# Altium footprint library IPC-7359 QFN_Sq_50P_Side_M.PcbLib: 92 footprints (part 1 of 6)
Each footprint in its own frame and in the unit in brackets; x right, y up, seen from the top. Pads: shape width x height; smd on the part's side, far side on the other; paste and mask are expansions set on the pad; w line width, h text height; cw(c..) or ccw(c..) is an arc to the next point about the centre after c.
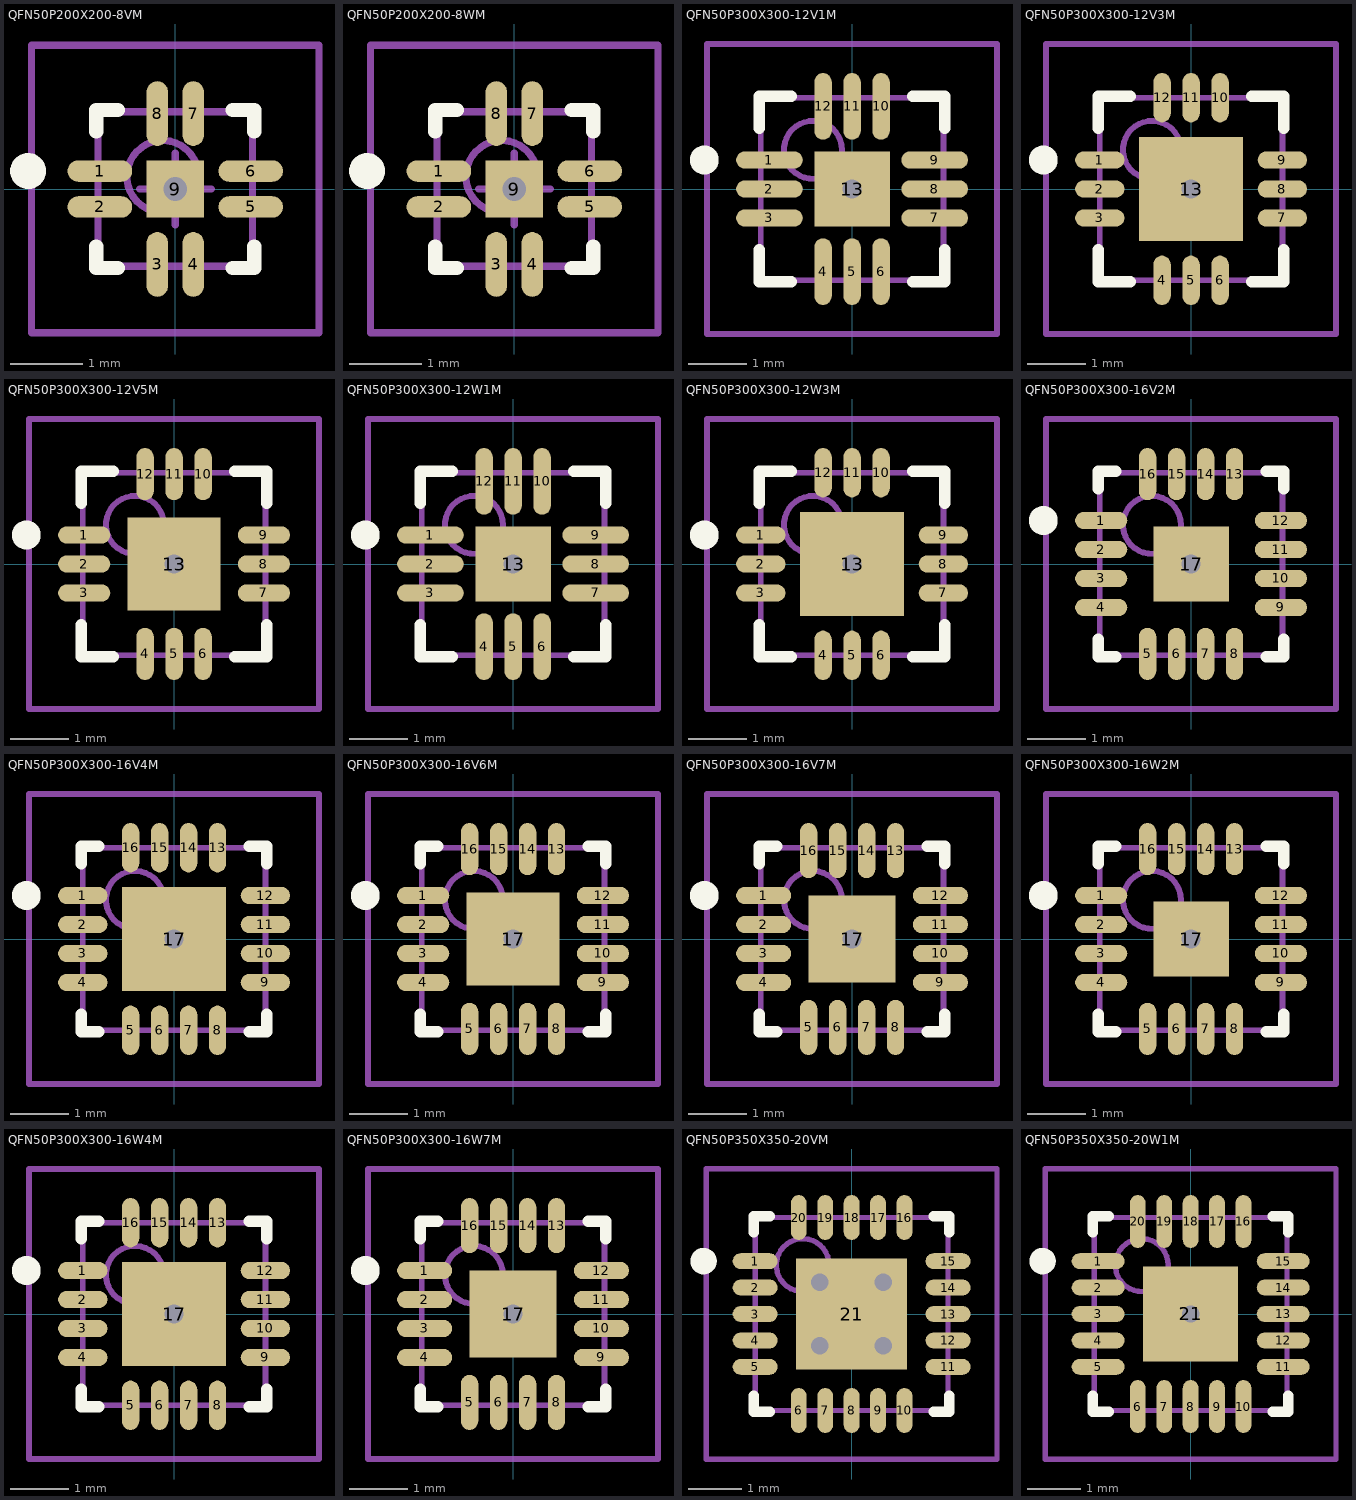
[diagram p0: the footprints below, top view; thin cyan lines are the x and y axes]

## QFN50P200X200-8VM [mm] "QFN, 8-Leads, Body 2x2mm, Pitch 0.5mm, IPC Low Density"
height 1
pads (9):
  oval 0.9x0.3 smd: 1(-1.05,0.25) 2(-1.05,-0.25) 5(1.05,-0.25) 6(1.05,0.25)
  oval 0.3x0.9 smd: 3(-0.25,-1.05) 4(0.25,-1.05) 7(0.25,1.05) 8(-0.25,1.05)
  rect 0.8x0.8 smd: 9(0,0)
via 0,0 diameter 0.66 hole 0.33
Top Overlay:
  circle w0.25: c-2.05,0.25 r0.125
  lines w0.2: -1.1,-0.8 -1.1,-1.1 -0.8,-1.1 ; -1.1,0.8 -1.1,1.1 -0.8,1.1 ; 0.8,-1.1 1.1,-1.1 1.1,-0.8 ; 0.8,1.1 1.1,1.1 1.1,0.8
Mechanical 13:
  circle w0.1: c-0.175,0.175 r0.5
  lines w0.1: -1.075,-1.075 1.075,-1.075 1.075,1.075 -1.075,1.075 -1.075,-1.075
Mechanical 15:
  lines w0.1: -0.5,0 0.5,0 ; 0,-0.5 0,0.5 ; -2,-2 2,-2 2,2 -2,2 -2,-2
3D body: height 1, standoff 0, extent -1.075,-1.075 1.075,1.075

## QFN50P200X200-8WM [mm] "QFN, 8-Leads, Body 2x2mm, Pitch 0.5mm, IPC Low Density"
height 0.8
pads (9):
  oval 0.9x0.3 smd: 1(-1.05,0.25) 2(-1.05,-0.25) 5(1.05,-0.25) 6(1.05,0.25)
  oval 0.3x0.9 smd: 3(-0.25,-1.05) 4(0.25,-1.05) 7(0.25,1.05) 8(-0.25,1.05)
  rect 0.8x0.8 smd: 9(0,0)
via 0,0 diameter 0.66 hole 0.33
Top Overlay:
  circle w0.25: c-2.05,0.25 r0.125
  lines w0.2: -1.1,-0.8 -1.1,-1.1 -0.8,-1.1 ; -1.1,0.8 -1.1,1.1 -0.8,1.1 ; 0.8,-1.1 1.1,-1.1 1.1,-0.8 ; 0.8,1.1 1.1,1.1 1.1,0.8
Mechanical 13:
  circle w0.1: c-0.175,0.175 r0.5
  lines w0.1: -1.075,-1.075 1.075,-1.075 1.075,1.075 -1.075,1.075 -1.075,-1.075
Mechanical 15:
  lines w0.1: -0.5,0 0.5,0 ; 0,-0.5 0,0.5 ; -2,-2 2,-2 2,2 -2,2 -2,-2
3D body: height 0.8, standoff 0, extent -1.075,-1.075 1.075,1.075

## QFN50P300X300-12V1M [mm] "QFN, 12-Leads, Body 3x3mm, Pitch 0.5mm, IPC Low Density"
height 1
pads (13):
  oval 1.15x0.3 smd: 1(-1.425,0.5) 2(-1.425,0) 3(-1.425,-0.5) 7(1.425,-0.5) 8(1.425,0) 9(1.425,0.5)
  oval 0.3x1.15 smd: 4(-0.5,-1.425) 5(0,-1.425) 6(0.5,-1.425) 10(0.5,1.425) 11(0,1.425) 12(-0.5,1.425)
  rect 1.3x1.3 smd: 13(0,0)
via 0,0 diameter 0.66 hole 0.33
Top Overlay:
  circle w0.25: c-2.55,0.5 r0.125
  lines w0.2: -1.6,-1.05 -1.6,-1.6 -1.05,-1.6 ; -1.6,1.05 -1.6,1.6 -1.05,1.6 ; 1.05,-1.6 1.6,-1.6 1.6,-1.05 ; 1.05,1.6 1.6,1.6 1.6,1.05
Mechanical 13:
  circle w0.1: c-0.675,0.675 r0.5
  lines w0.1: -1.575,-1.575 1.575,-1.575 1.575,1.575 -1.575,1.575 -1.575,-1.575
Mechanical 15:
  lines w0.1: -0.5,0 0.5,0 ; 0,-0.5 0,0.5 ; -2.5,-2.5 2.5,-2.5 2.5,2.5 -2.5,2.5 -2.5,-2.5
3D body: height 1, standoff 0, extent -1.575,-1.575 1.575,1.575

## QFN50P300X300-12V3M [mm] "QFN, 12-Leads, Body 3x3mm, Pitch 0.5mm, IPC Low Density"
height 1
pads (13):
  oval 0.85x0.3 smd: 1(-1.575,0.5) 2(-1.575,0) 3(-1.575,-0.5) 7(1.575,-0.5) 8(1.575,0) 9(1.575,0.5)
  oval 0.3x0.85 smd: 4(-0.5,-1.575) 5(0,-1.575) 6(0.5,-1.575) 10(0.5,1.575) 11(0,1.575) 12(-0.5,1.575)
  rect 1.8x1.8 smd: 13(0,0)
via 0,0 diameter 0.66 hole 0.33
Top Overlay:
  circle w0.25: c-2.55,0.5 r0.125
  lines w0.2: -1.6,-1.05 -1.6,-1.6 -1.05,-1.6 ; -1.6,1.05 -1.6,1.6 -1.05,1.6 ; 1.05,-1.6 1.6,-1.6 1.6,-1.05 ; 1.05,1.6 1.6,1.6 1.6,1.05
Mechanical 13:
  circle w0.1: c-0.675,0.675 r0.5
  lines w0.1: -1.575,-1.575 1.575,-1.575 1.575,1.575 -1.575,1.575 -1.575,-1.575
Mechanical 15:
  lines w0.1: -0.5,0 0.5,0 ; 0,-0.5 0,0.5 ; -2.5,-2.5 2.5,-2.5 2.5,2.5 -2.5,2.5 -2.5,-2.5
3D body: height 1, standoff 0, extent -1.575,-1.575 1.575,1.575

## QFN50P300X300-12V5M [mm] "QFN, 12-Leads, Body 3x3mm, Pitch 0.5mm, IPC Low Density"
height 1
pads (13):
  oval 0.9x0.3 smd: 1(-1.55,0.5) 2(-1.55,0) 3(-1.55,-0.5) 7(1.55,-0.5) 8(1.55,0) 9(1.55,0.5)
  oval 0.3x0.9 smd: 4(-0.5,-1.55) 5(0,-1.55) 6(0.5,-1.55) 10(0.5,1.55) 11(0,1.55) 12(-0.5,1.55)
  rect 1.6x1.6 smd: 13(0,0)
via 0,0 diameter 0.66 hole 0.33
Top Overlay:
  circle w0.25: c-2.55,0.5 r0.125
  lines w0.2: -1.6,-1.05 -1.6,-1.6 -1.05,-1.6 ; -1.6,1.05 -1.6,1.6 -1.05,1.6 ; 1.05,-1.6 1.6,-1.6 1.6,-1.05 ; 1.05,1.6 1.6,1.6 1.6,1.05
Mechanical 13:
  circle w0.1: c-0.675,0.675 r0.5
  lines w0.1: -1.575,-1.575 1.575,-1.575 1.575,1.575 -1.575,1.575 -1.575,-1.575
Mechanical 15:
  lines w0.1: -0.5,0 0.5,0 ; 0,-0.5 0,0.5 ; -2.5,-2.5 2.5,-2.5 2.5,2.5 -2.5,2.5 -2.5,-2.5
3D body: height 1, standoff 0, extent -1.575,-1.575 1.575,1.575

## QFN50P300X300-12W1M [mm] "QFN, 12-Leads, Body 3x3mm, Pitch 0.5mm, IPC Low Density"
height 0.8
pads (13):
  oval 1.15x0.3 smd: 1(-1.425,0.5) 2(-1.425,0) 3(-1.425,-0.5) 7(1.425,-0.5) 8(1.425,0) 9(1.425,0.5)
  oval 0.3x1.15 smd: 4(-0.5,-1.425) 5(0,-1.425) 6(0.5,-1.425) 10(0.5,1.425) 11(0,1.425) 12(-0.5,1.425)
  rect 1.3x1.3 smd: 13(0,0)
via 0,0 diameter 0.66 hole 0.33
Top Overlay:
  circle w0.25: c-2.55,0.5 r0.125
  lines w0.2: -1.6,-1.05 -1.6,-1.6 -1.05,-1.6 ; -1.6,1.05 -1.6,1.6 -1.05,1.6 ; 1.05,-1.6 1.6,-1.6 1.6,-1.05 ; 1.05,1.6 1.6,1.6 1.6,1.05
Mechanical 13:
  circle w0.1: c-0.675,0.675 r0.5
  lines w0.1: -1.575,-1.575 1.575,-1.575 1.575,1.575 -1.575,1.575 -1.575,-1.575
Mechanical 15:
  lines w0.1: -0.5,0 0.5,0 ; 0,-0.5 0,0.5 ; -2.5,-2.5 2.5,-2.5 2.5,2.5 -2.5,2.5 -2.5,-2.5
3D body: height 0.8, standoff 0, extent -1.575,-1.575 1.575,1.575

## QFN50P300X300-12W3M [mm] "QFN, 12-Leads, Body 3x3mm, Pitch 0.5mm, IPC Low Density"
height 0.8
pads (13):
  oval 0.85x0.3 smd: 1(-1.575,0.5) 2(-1.575,0) 3(-1.575,-0.5) 7(1.575,-0.5) 8(1.575,0) 9(1.575,0.5)
  oval 0.3x0.85 smd: 4(-0.5,-1.575) 5(0,-1.575) 6(0.5,-1.575) 10(0.5,1.575) 11(0,1.575) 12(-0.5,1.575)
  rect 1.8x1.8 smd: 13(0,0)
via 0,0 diameter 0.66 hole 0.33
Top Overlay:
  circle w0.25: c-2.55,0.5 r0.125
  lines w0.2: -1.6,-1.05 -1.6,-1.6 -1.05,-1.6 ; -1.6,1.05 -1.6,1.6 -1.05,1.6 ; 1.05,-1.6 1.6,-1.6 1.6,-1.05 ; 1.05,1.6 1.6,1.6 1.6,1.05
Mechanical 13:
  circle w0.1: c-0.675,0.675 r0.5
  lines w0.1: -1.575,-1.575 1.575,-1.575 1.575,1.575 -1.575,1.575 -1.575,-1.575
Mechanical 15:
  lines w0.1: -0.5,0 0.5,0 ; 0,-0.5 0,0.5 ; -2.5,-2.5 2.5,-2.5 2.5,2.5 -2.5,2.5 -2.5,-2.5
3D body: height 0.8, standoff 0, extent -1.575,-1.575 1.575,1.575

## QFN50P300X300-16V2M [mm] "QFN, 16-Leads, Body 3x3mm, Pitch 0.5mm, IPC Low Density"
height 1
pads (17):
  oval 0.9x0.3 smd: 1(-1.55,0.75) 2(-1.55,0.25) 3(-1.55,-0.25) 4(-1.55,-0.75) 9(1.55,-0.75) 10(1.55,-0.25) 11(1.55,0.25) 12(1.55,0.75)
  oval 0.3x0.9 smd: 5(-0.75,-1.55) 6(-0.25,-1.55) 7(0.25,-1.55) 8(0.75,-1.55) 13(0.75,1.55) 14(0.25,1.55) 15(-0.25,1.55) 16(-0.75,1.55)
  rect 1.3x1.3 smd: 17(0,0)
via 0,0 diameter 0.66 hole 0.33
Top Overlay:
  circle w0.25: c-2.55,0.75 r0.125
  lines w0.2: -1.6,-1.3 -1.6,-1.6 -1.3,-1.6 ; -1.6,1.3 -1.6,1.6 -1.3,1.6 ; 1.3,-1.6 1.6,-1.6 1.6,-1.3 ; 1.3,1.6 1.6,1.6 1.6,1.3
Mechanical 13:
  circle w0.1: c-0.675,0.675 r0.5
  lines w0.1: -1.575,-1.575 1.575,-1.575 1.575,1.575 -1.575,1.575 -1.575,-1.575
Mechanical 15:
  lines w0.1: -0.5,0 0.5,0 ; 0,-0.5 0,0.5 ; -2.5,-2.5 2.5,-2.5 2.5,2.5 -2.5,2.5 -2.5,-2.5
3D body: height 1, standoff 0, extent -1.575,-1.575 1.575,1.575

## QFN50P300X300-16V4M [mm] "QFN, 16-Leads, Body 3x3mm, Pitch 0.5mm, IPC Low Density"
height 1
pads (17):
  oval 0.85x0.3 smd: 1(-1.575,0.75) 2(-1.575,0.25) 3(-1.575,-0.25) 4(-1.575,-0.75) 9(1.575,-0.75) 10(1.575,-0.25) 11(1.575,0.25) 12(1.575,0.75)
  oval 0.3x0.85 smd: 5(-0.75,-1.575) 6(-0.25,-1.575) 7(0.25,-1.575) 8(0.75,-1.575) 13(0.75,1.575) 14(0.25,1.575) 15(-0.25,1.575) 16(-0.75,1.575)
  rect 1.8x1.8 smd: 17(0,0)
via 0,0 diameter 0.66 hole 0.33
Top Overlay:
  circle w0.25: c-2.55,0.75 r0.125
  lines w0.2: -1.6,-1.3 -1.6,-1.6 -1.3,-1.6 ; -1.6,1.3 -1.6,1.6 -1.3,1.6 ; 1.3,-1.6 1.6,-1.6 1.6,-1.3 ; 1.3,1.6 1.6,1.6 1.6,1.3
Mechanical 13:
  circle w0.1: c-0.675,0.675 r0.5
  lines w0.1: -1.575,-1.575 1.575,-1.575 1.575,1.575 -1.575,1.575 -1.575,-1.575
Mechanical 15:
  lines w0.1: -0.5,0 0.5,0 ; 0,-0.5 0,0.5 ; -2.5,-2.5 2.5,-2.5 2.5,2.5 -2.5,2.5 -2.5,-2.5
3D body: height 1, standoff 0, extent -1.575,-1.575 1.575,1.575

## QFN50P300X300-16V6M [mm] "QFN, 16-Leads, Body 3x3mm, Pitch 0.5mm, IPC Low Density"
height 1
pads (17):
  oval 0.9x0.3 smd: 1(-1.55,0.75) 2(-1.55,0.25) 3(-1.55,-0.25) 4(-1.55,-0.75) 9(1.55,-0.75) 10(1.55,-0.25) 11(1.55,0.25) 12(1.55,0.75)
  oval 0.3x0.9 smd: 5(-0.75,-1.55) 6(-0.25,-1.55) 7(0.25,-1.55) 8(0.75,-1.55) 13(0.75,1.55) 14(0.25,1.55) 15(-0.25,1.55) 16(-0.75,1.55)
  rect 1.6x1.6 smd: 17(0,0)
via 0,0 diameter 0.66 hole 0.33
Top Overlay:
  circle w0.25: c-2.55,0.75 r0.125
  lines w0.2: -1.6,-1.3 -1.6,-1.6 -1.3,-1.6 ; -1.6,1.3 -1.6,1.6 -1.3,1.6 ; 1.3,-1.6 1.6,-1.6 1.6,-1.3 ; 1.3,1.6 1.6,1.6 1.6,1.3
Mechanical 13:
  circle w0.1: c-0.675,0.675 r0.5
  lines w0.1: -1.575,-1.575 1.575,-1.575 1.575,1.575 -1.575,1.575 -1.575,-1.575
Mechanical 15:
  lines w0.1: -0.5,0 0.5,0 ; 0,-0.5 0,0.5 ; -2.5,-2.5 2.5,-2.5 2.5,2.5 -2.5,2.5 -2.5,-2.5
3D body: height 1, standoff 0, extent -1.575,-1.575 1.575,1.575

## QFN50P300X300-16V7M [mm] "QFN, 16-Leads, Body 3x3mm, Pitch 0.5mm, IPC Low Density"
height 1
pads (17):
  oval 0.95x0.3 smd: 1(-1.525,0.75) 2(-1.525,0.25) 3(-1.525,-0.25) 4(-1.525,-0.75) 9(1.525,-0.75) 10(1.525,-0.25) 11(1.525,0.25) 12(1.525,0.75)
  oval 0.3x0.95 smd: 5(-0.75,-1.525) 6(-0.25,-1.525) 7(0.25,-1.525) 8(0.75,-1.525) 13(0.75,1.525) 14(0.25,1.525) 15(-0.25,1.525) 16(-0.75,1.525)
  rect 1.5x1.5 smd: 17(0,0)
via 0,0 diameter 0.66 hole 0.33
Top Overlay:
  circle w0.25: c-2.55,0.75 r0.125
  lines w0.2: -1.6,-1.3 -1.6,-1.6 -1.3,-1.6 ; -1.6,1.3 -1.6,1.6 -1.3,1.6 ; 1.3,-1.6 1.6,-1.6 1.6,-1.3 ; 1.3,1.6 1.6,1.6 1.6,1.3
Mechanical 13:
  circle w0.1: c-0.675,0.675 r0.5
  lines w0.1: -1.575,-1.575 1.575,-1.575 1.575,1.575 -1.575,1.575 -1.575,-1.575
Mechanical 15:
  lines w0.1: -0.5,0 0.5,0 ; 0,-0.5 0,0.5 ; -2.5,-2.5 2.5,-2.5 2.5,2.5 -2.5,2.5 -2.5,-2.5
3D body: height 1, standoff 0, extent -1.575,-1.575 1.575,1.575

## QFN50P300X300-16W2M [mm] "QFN, 16-Leads, Body 3x3mm, Pitch 0.5mm, IPC Low Density"
height 0.8
pads (17):
  oval 0.9x0.3 smd: 1(-1.55,0.75) 2(-1.55,0.25) 3(-1.55,-0.25) 4(-1.55,-0.75) 9(1.55,-0.75) 10(1.55,-0.25) 11(1.55,0.25) 12(1.55,0.75)
  oval 0.3x0.9 smd: 5(-0.75,-1.55) 6(-0.25,-1.55) 7(0.25,-1.55) 8(0.75,-1.55) 13(0.75,1.55) 14(0.25,1.55) 15(-0.25,1.55) 16(-0.75,1.55)
  rect 1.3x1.3 smd: 17(0,0)
via 0,0 diameter 0.66 hole 0.33
Top Overlay:
  circle w0.25: c-2.55,0.75 r0.125
  lines w0.2: -1.6,-1.3 -1.6,-1.6 -1.3,-1.6 ; -1.6,1.3 -1.6,1.6 -1.3,1.6 ; 1.3,-1.6 1.6,-1.6 1.6,-1.3 ; 1.3,1.6 1.6,1.6 1.6,1.3
Mechanical 13:
  circle w0.1: c-0.675,0.675 r0.5
  lines w0.1: -1.575,-1.575 1.575,-1.575 1.575,1.575 -1.575,1.575 -1.575,-1.575
Mechanical 15:
  lines w0.1: -0.5,0 0.5,0 ; 0,-0.5 0,0.5 ; -2.5,-2.5 2.5,-2.5 2.5,2.5 -2.5,2.5 -2.5,-2.5
3D body: height 0.8, standoff 0, extent -1.575,-1.575 1.575,1.575

## QFN50P300X300-16W4M [mm] "QFN, 16-Leads, Body 3x3mm, Pitch 0.5mm, IPC Low Density"
height 0.8
pads (17):
  oval 0.85x0.3 smd: 1(-1.575,0.75) 2(-1.575,0.25) 3(-1.575,-0.25) 4(-1.575,-0.75) 9(1.575,-0.75) 10(1.575,-0.25) 11(1.575,0.25) 12(1.575,0.75)
  oval 0.3x0.85 smd: 5(-0.75,-1.575) 6(-0.25,-1.575) 7(0.25,-1.575) 8(0.75,-1.575) 13(0.75,1.575) 14(0.25,1.575) 15(-0.25,1.575) 16(-0.75,1.575)
  rect 1.8x1.8 smd: 17(0,0)
via 0,0 diameter 0.66 hole 0.33
Top Overlay:
  circle w0.25: c-2.55,0.75 r0.125
  lines w0.2: -1.6,-1.3 -1.6,-1.6 -1.3,-1.6 ; -1.6,1.3 -1.6,1.6 -1.3,1.6 ; 1.3,-1.6 1.6,-1.6 1.6,-1.3 ; 1.3,1.6 1.6,1.6 1.6,1.3
Mechanical 13:
  circle w0.1: c-0.675,0.675 r0.5
  lines w0.1: -1.575,-1.575 1.575,-1.575 1.575,1.575 -1.575,1.575 -1.575,-1.575
Mechanical 15:
  lines w0.1: -0.5,0 0.5,0 ; 0,-0.5 0,0.5 ; -2.5,-2.5 2.5,-2.5 2.5,2.5 -2.5,2.5 -2.5,-2.5
3D body: height 0.8, standoff 0, extent -1.575,-1.575 1.575,1.575

## QFN50P300X300-16W7M [mm] "QFN, 16-Leads, Body 3x3mm, Pitch 0.5mm, IPC Low Density"
height 0.8
pads (17):
  oval 0.95x0.3 smd: 1(-1.525,0.75) 2(-1.525,0.25) 3(-1.525,-0.25) 4(-1.525,-0.75) 9(1.525,-0.75) 10(1.525,-0.25) 11(1.525,0.25) 12(1.525,0.75)
  oval 0.3x0.95 smd: 5(-0.75,-1.525) 6(-0.25,-1.525) 7(0.25,-1.525) 8(0.75,-1.525) 13(0.75,1.525) 14(0.25,1.525) 15(-0.25,1.525) 16(-0.75,1.525)
  rect 1.5x1.5 smd: 17(0,0)
via 0,0 diameter 0.66 hole 0.33
Top Overlay:
  circle w0.25: c-2.55,0.75 r0.125
  lines w0.2: -1.6,-1.3 -1.6,-1.6 -1.3,-1.6 ; -1.6,1.3 -1.6,1.6 -1.3,1.6 ; 1.3,-1.6 1.6,-1.6 1.6,-1.3 ; 1.3,1.6 1.6,1.6 1.6,1.3
Mechanical 13:
  circle w0.1: c-0.675,0.675 r0.5
  lines w0.1: -1.575,-1.575 1.575,-1.575 1.575,1.575 -1.575,1.575 -1.575,-1.575
Mechanical 15:
  lines w0.1: -0.5,0 0.5,0 ; 0,-0.5 0,0.5 ; -2.5,-2.5 2.5,-2.5 2.5,2.5 -2.5,2.5 -2.5,-2.5
3D body: height 0.8, standoff 0, extent -1.575,-1.575 1.575,1.575

## QFN50P350X350-20VM [mm] "QFN, 20-Leads, Body 3.5x3.5mm, Pitch 0.5mm, IPC Low Density"
height 1
pads (21):
  oval 0.85x0.3 smd: 1(-1.825,1) 2(-1.825,0.5) 3(-1.825,0) 4(-1.825,-0.5) 5(-1.825,-1) 11(1.825,-1) 12(1.825,-0.5) 13(1.825,0) 14(1.825,0.5) 15(1.825,1)
  oval 0.3x0.85 smd: 6(-1,-1.825) 7(-0.5,-1.825) 8(0,-1.825) 9(0.5,-1.825) 10(1,-1.825) 16(1,1.825) 17(0.5,1.825) 18(0,1.825) 19(-0.5,1.825) 20(-1,1.825)
  rect 2.1x2.1 smd: 21(0,0)
via 0.6,-0.6 diameter 0.66 hole 0.33
via -0.6,-0.6 diameter 0.66 hole 0.33
via 0.6,0.6 diameter 0.66 hole 0.33
via -0.6,0.6 diameter 0.66 hole 0.33
Top Overlay:
  circle w0.25: c-2.8,1 r0.125
  lines w0.2: -1.85,-1.55 -1.85,-1.85 -1.55,-1.85 ; -1.85,1.55 -1.85,1.85 -1.55,1.85 ; 1.55,-1.85 1.85,-1.85 1.85,-1.55 ; 1.55,1.85 1.85,1.85 1.85,1.55
Mechanical 13:
  circle w0.1: c-0.925,0.925 r0.5
  lines w0.1: -1.825,-1.825 1.825,-1.825 1.825,1.825 -1.825,1.825 -1.825,-1.825
Mechanical 15:
  lines w0.1: -0.5,0 0.5,0 ; 0,-0.5 0,0.5 ; -2.75,-2.75 2.75,-2.75 2.75,2.75 -2.75,2.75 -2.75,-2.75
3D body: height 1, standoff 0, extent -1.825,-1.825 1.825,1.825

## QFN50P350X350-20W1M [mm] "QFN, 20-Leads, Body 3.5x3.5mm, Pitch 0.5mm, IPC Low Density"
height 0.8
pads (21):
  oval 1x0.3 smd: 1(-1.75,1) 2(-1.75,0.5) 3(-1.75,0) 4(-1.75,-0.5) 5(-1.75,-1) 11(1.75,-1) 12(1.75,-0.5) 13(1.75,0) 14(1.75,0.5) 15(1.75,1)
  oval 0.3x1 smd: 6(-1,-1.75) 7(-0.5,-1.75) 8(0,-1.75) 9(0.5,-1.75) 10(1,-1.75) 16(1,1.75) 17(0.5,1.75) 18(0,1.75) 19(-0.5,1.75) 20(-1,1.75)
  rect 1.8x1.8 smd: 21(0,0)
via 0,0 diameter 0.66 hole 0.33
Top Overlay:
  circle w0.25: c-2.8,1 r0.125
  lines w0.2: -1.85,-1.55 -1.85,-1.85 -1.55,-1.85 ; -1.85,1.55 -1.85,1.85 -1.55,1.85 ; 1.55,-1.85 1.85,-1.85 1.85,-1.55 ; 1.55,1.85 1.85,1.85 1.85,1.55
Mechanical 13:
  circle w0.1: c-0.925,0.925 r0.5
  lines w0.1: -1.825,-1.825 1.825,-1.825 1.825,1.825 -1.825,1.825 -1.825,-1.825
Mechanical 15:
  lines w0.1: -0.5,0 0.5,0 ; 0,-0.5 0,0.5 ; -2.75,-2.75 2.75,-2.75 2.75,2.75 -2.75,2.75 -2.75,-2.75
3D body: height 0.8, standoff 0, extent -1.825,-1.825 1.825,1.825